# Altium schematic symbol library XH Connectors.SchLib: 6 symbols
Pins are listed as number, name and electrical type; pins without a type are passive.

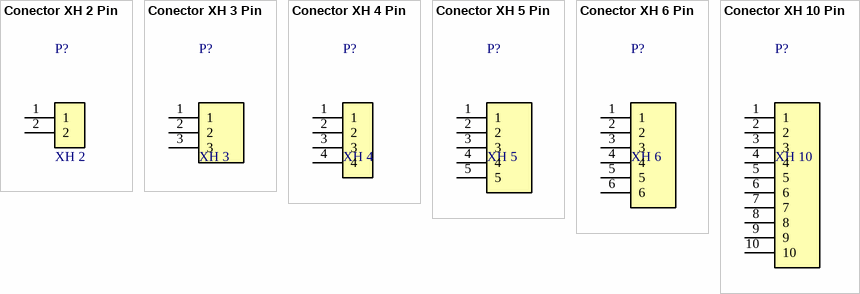
[diagram p0: symbols Conector XH 2 Pin to Conector XH 10 Pin]

## Conector XH 2 Pin
designator P?, comment XH 2
Conector XH 2 Pin; DatasheetVersion: 2022
pins: 1, 2

## Conector XH 3 Pin
designator P?, comment XH 3
Conector XH 3 Pin; DatasheetVersion: 2022
pins: 1, 2, 3

## Conector XH 4 Pin
designator P?, comment XH 4
Conector XH 4 Pin; DatasheetVersion: 2022
pins: 1, 2, 3, 4

## Conector XH 5 Pin
designator P?, comment XH 5
Conector XH 5 Pin; DatasheetVersion: 2022
pins: 1, 2, 3, 4, 5

## Conector XH 6 Pin
designator P?, comment XH 6
Conector XH 6 Pin; DatasheetVersion: 2022
pins: 1, 2, 3, 4, 5, 6

## Conector XH 10 Pin
designator P?, comment XH 10
Conector XH 10 Pin; DatasheetVersion: 2022
pins: 1, 2, 3, 4, 5, 6, 7, 8, 9, 10